# EAGLE library part PIC18F252_DOUBLE (library harrison)
PIC18F252 Microcontroller with bothZIF 28-6 and DIP 28-3 sockets
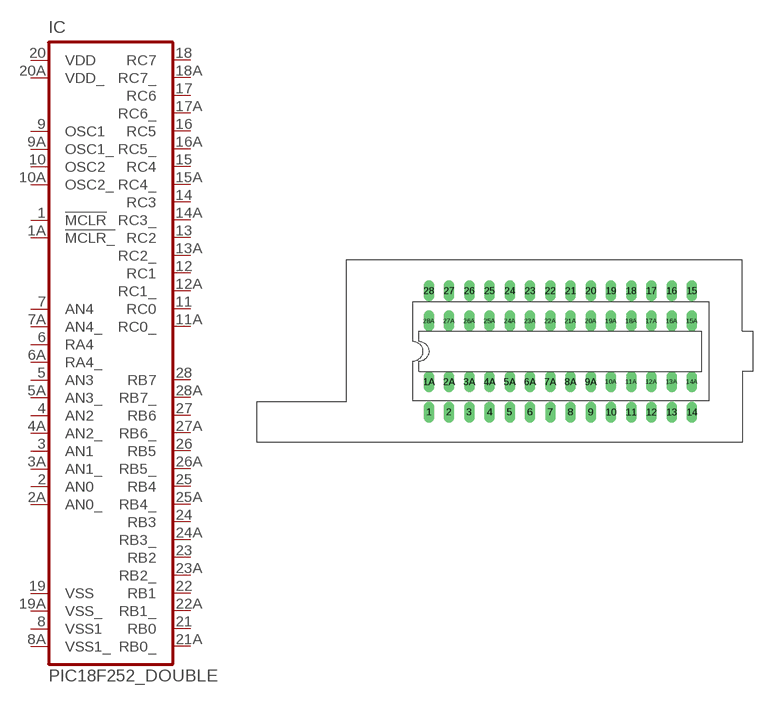
[diagram p9: symbol with the pads of ZIP28-6-3; footprint ZIP28-6-3]

Designator prefix IC

## PIC18F252_DOUBLE  [ZIP28-6-3]
1  !MCLR  in
1A  !MCLR_  in
2  AN0
2A  AN0_
3  AN1
3A  AN1_
4  AN2
4A  AN2_
5  AN3
5A  AN3_
6  RA4
6A  RA4_
7  AN4
7A  AN4_
8  VSS1  pwr
8A  VSS1_  pwr
9  OSC1
9A  OSC1_
10  OSC2
10A  OSC2_
11  RC0
11A  RC0_
12  RC1
12A  RC1_
13  RC2
13A  RC2_
14  RC3
14A  RC3_
15  RC4
15A  RC4_
16  RC5
16A  RC5_
17  RC6
17A  RC6_
18  RC7
18A  RC7_
19  VSS  pwr
19A  VSS_  pwr
20  VDD  pwr
20A  VDD_  pwr
21  RB0
21A  RB0_
22  RB1
22A  RB1_
23  RB2
23A  RB2_
24  RB3
24A  RB3_
25  RB4
25A  RB4_
26  RB5
26A  RB5_
27  RB6
27A  RB6_
28  RB7
28A  RB7_

## Footprint ZIP28-6-3 (pad centres in mm)
drill 0.813 long: 1 -15.24,-7.62; 1A -15.24,-3.81; 2 -12.7,-7.62; 2A -12.7,-3.81; 3 -10.16,-7.62; 3A -10.16,-3.81; 4 -7.62,-7.62; 4A -7.62,-3.81; 5 -5.08,-7.62; 5A -5.08,-3.81; 6 -2.54,-7.62; 6A -2.54,-3.81; 7 0,-7.62; 7A 0,-3.81; 8 2.54,-7.62; 8A 2.54,-3.81; 9 5.08,-7.62; 9A 5.08,-3.81; 10 7.62,-7.62; 10A 7.62,-3.81; 11 10.16,-7.62; 11A 10.16,-3.81; 12 12.7,-7.62; 12A 12.7,-3.81; 13 15.24,-7.62; 13A 15.24,-3.81; 14 17.78,-7.62; 14A 17.78,-3.81; 15 17.78,7.62; 15A 17.78,3.81; 16 15.24,7.62; 16A 15.24,3.81; 17 12.7,7.62; 17A 12.7,3.81; 18 10.16,7.62; 18A 10.16,3.81; 19 7.62,7.62; 19A 7.62,3.81; 20 5.08,7.62; 20A 5.08,3.81; 21 2.54,7.62; 21A 2.54,3.81; 22 0,7.62; 22A 0,3.81; 23 -2.54,7.62; 23A -2.54,3.81; 24 -5.08,7.62; 24A -5.08,3.81; 25 -7.62,7.62; 25A -7.62,3.81; 26 -10.16,7.62; 26A -10.16,3.81; 27 -12.7,7.62; 27A -12.7,3.81; 28 -15.24,7.62; 28A -15.24,3.81